# Altium footprint library TH resistors.PcbLib: 92 footprints (part 3 of 6)
Each footprint in its own frame and in the unit in brackets; x right, y up, seen from the top. Pads: shape width x height; smd on the part's side, far side on the other; paste and mask are expansions set on the pad; w line width, h text height; cw(c..) or ccw(c..) is an arc to the next point about the centre after c.
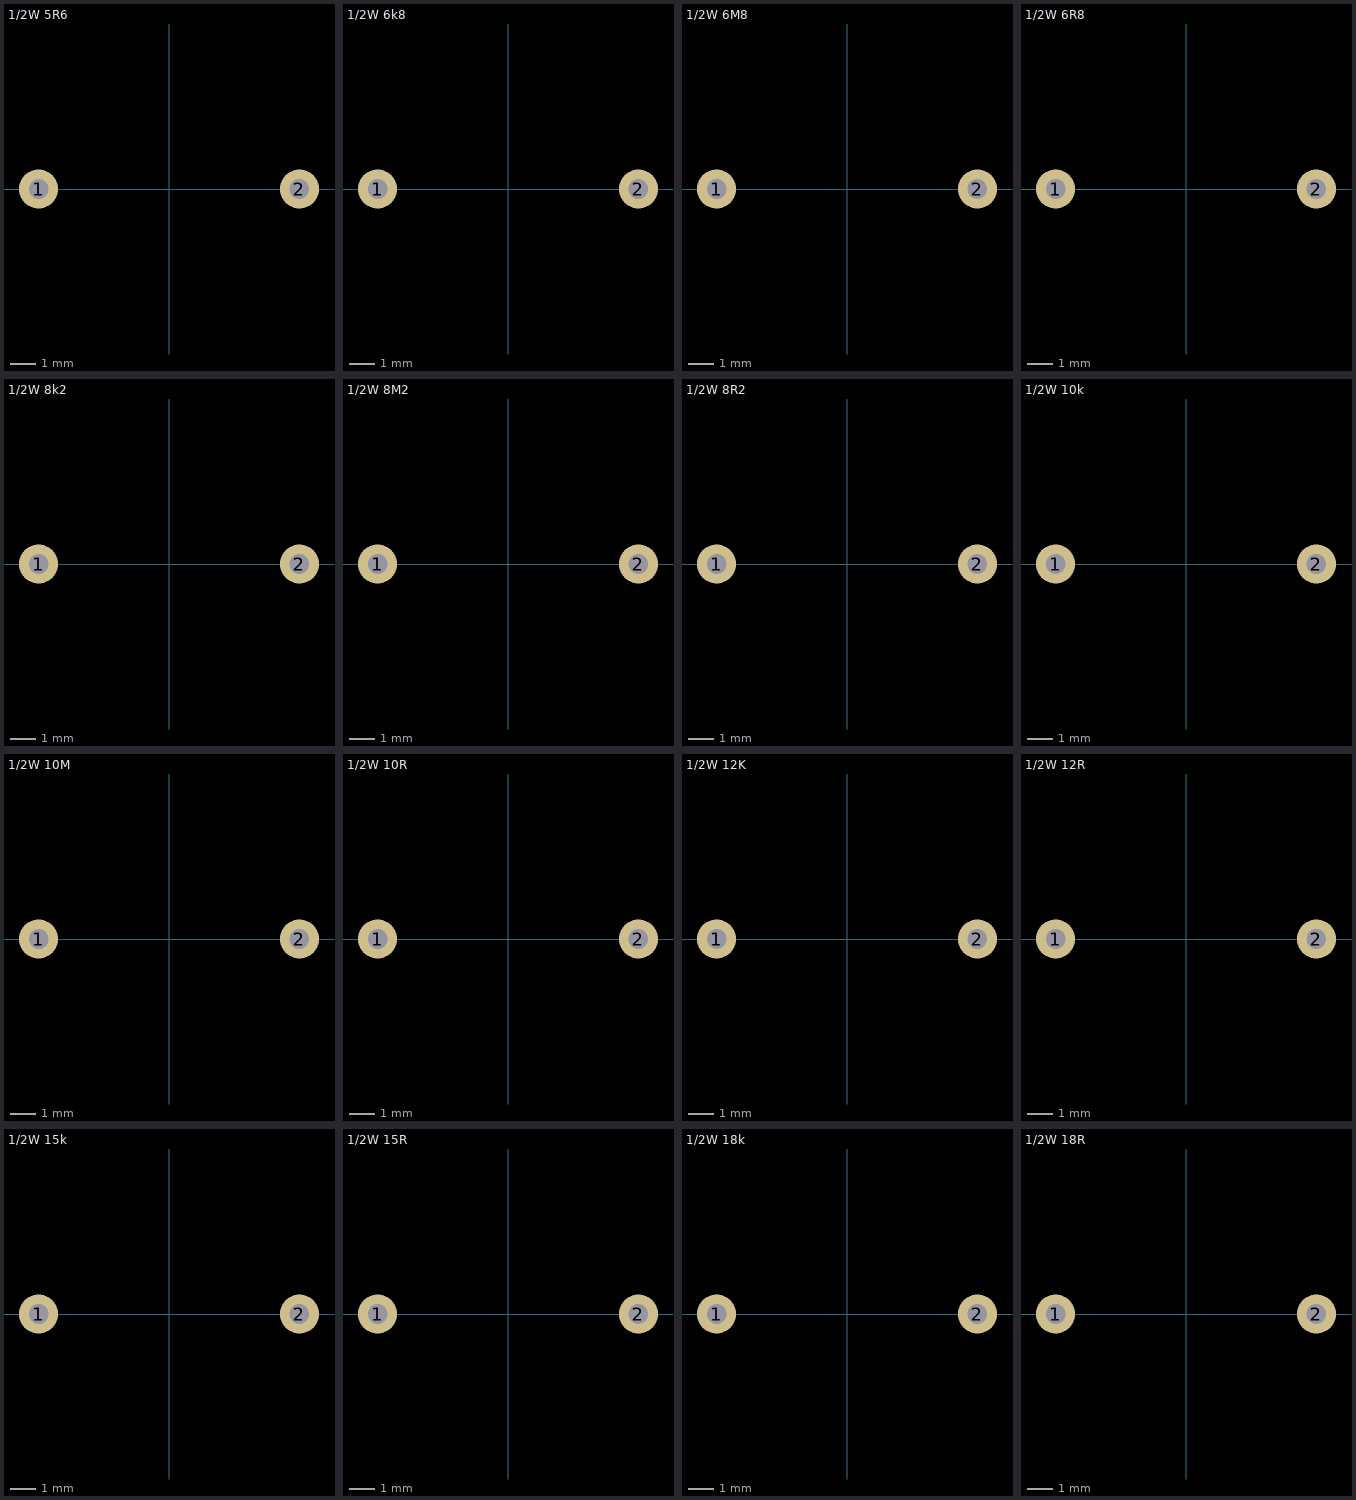
[diagram p2: the footprints below, top view; thin cyan lines are the x and y axes]

## 1/2W 5R6 [mil]
pads (2):
  round 60 hole 30: 1(-200,0) 2(200,0)
3D body "Resistor Axial 0.5W - Pitch 10.2mm (401.57mil) - 5R6.STEP": height 59.06, standoff -206.69, extent -210.63,-59.06 210.63,59.06

## 1/2W 6k8 [mil]
pads (2):
  round 60 hole 30: 1(-200,0) 2(200,0)
3D body "Resistor Axial 0.5W - Pitch 10.2mm (401.57mil) - 6K8.STEP": height 59.06, standoff -206.69, extent -210.63,-59.06 210.63,59.06

## 1/2W 6M8 [mil]
pads (2):
  round 60 hole 30: 1(-200,0) 2(200,0)
3D body "Resistor Axial 0.5W - Pitch 10.2mm (401.57mil) - 6M8.STEP": height 59.06, standoff -206.69, extent -210.63,-59.06 210.63,59.06

## 1/2W 6R8 [mil]
pads (2):
  round 60 hole 30: 1(-200,0) 2(200,0)
3D body "Resistor Axial 0.5W - Pitch 10.2mm (401.57mil) - 6R8.STEP": height 59.06, standoff -206.69, extent -210.63,-59.06 210.63,59.06

## 1/2W 8k2 [mil]
pads (2):
  round 60 hole 30: 1(-200,0) 2(200,0)
3D body "Resistor Axial 0.5W - Pitch 10.2mm (401.57mil) - 8K2.STEP": height 59.06, standoff -206.69, extent -210.63,-59.06 210.63,59.06

## 1/2W 8M2 [mil]
pads (2):
  round 60 hole 30: 1(-200,0) 2(200,0)
3D body "Resistor Axial 0.5W - Pitch 10.2mm (401.57mil) - 8M2.STEP": height 59.06, standoff -206.69, extent -210.63,-59.06 210.63,59.06

## 1/2W 8R2 [mil]
pads (2):
  round 60 hole 30: 1(-200,0) 2(200,0)
3D body "Resistor Axial 0.5W - Pitch 10.2mm (401.57mil) - 8R2.STEP": height 59.06, standoff -206.69, extent -210.63,-59.06 210.63,59.06

## 1/2W 10k [mil]
pads (2):
  round 60 hole 30: 1(-200,0) 2(200,0)
3D body "Resistor Axial 0.5W - Pitch 10.2mm (401.57mil) - 10K.STEP": height 59.06, standoff -206.69, extent -210.63,-59.06 210.63,59.06

## 1/2W 10M [mil]
pads (2):
  round 60 hole 30: 1(-200,0) 2(200,0)
3D body "Resistor Axial 0.5W - Pitch 10.2mm (401.57mil) - 10M.STEP": height 59.06, standoff -206.69, extent -210.63,-59.06 210.63,59.06

## 1/2W 10R [mil]
pads (2):
  round 60 hole 30: 1(-200,0) 2(200,0)
3D body "Resistor Axial 0.5W - Pitch 10.2mm (401.57mil) - 10R.STEP": height 59.06, standoff -206.69, extent -210.63,-59.06 210.63,59.06

## 1/2W 12K [mil]
pads (2):
  round 60 hole 30: 1(-200,0) 2(200,0)
3D body "Resistor Axial 0.5W - Pitch 10.2mm (401.57mil) - 12K.STEP": height 59.06, standoff -206.69, extent -210.63,-59.06 210.63,59.06

## 1/2W 12R [mil]
pads (2):
  round 60 hole 30: 1(-200,0) 2(200,0)
3D body "Resistor Axial 0.5W - Pitch 10.2mm (401.57mil) - 12R.STEP": height 59.06, standoff -206.69, extent -210.63,-59.06 210.63,59.06

## 1/2W 15k [mil]
pads (2):
  round 60 hole 30: 1(-200,0) 2(200,0)
3D body "Resistor Axial 0.5W - Pitch 10.2mm (401.57mil) - 15K.STEP": height 59.06, standoff -206.69, extent -210.63,-59.06 210.63,59.06

## 1/2W 15R [mil]
pads (2):
  round 60 hole 30: 1(-200,0) 2(200,0)
3D body "Resistor Axial 0.5W - Pitch 10.2mm (401.57mil) - 15R.STEP": height 59.06, standoff -206.69, extent -210.63,-59.06 210.63,59.06

## 1/2W 18k [mil]
pads (2):
  round 60 hole 30: 1(-200,0) 2(200,0)
3D body "Resistor Axial 0.5W - Pitch 10.2mm (401.57mil) - 18K.STEP": height 59.06, standoff -206.69, extent -210.63,-59.06 210.63,59.06

## 1/2W 18R [mil]
pads (2):
  round 60 hole 30: 1(-200,0) 2(200,0)
3D body "Resistor Axial 0.5W - Pitch 10.2mm (401.57mil) - 18R.STEP": height 59.06, standoff -206.69, extent -210.63,-59.06 210.63,59.06